# Altium schematic symbol library 8FX1-254MM.SchLib: 1 symbol
Pins are listed as number, name and electrical type; pins without a type are passive.

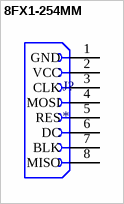
[diagram p0: symbol 8FX1-254MM]

## 8FX1-254MM
designator J?
Headers & Wire Housings 2.54MM 0.1 8-PIN FEMALE HEADER; MP: 8Fx1-254mm; MF: Gravitech; SnapEDA_Link: https://www.snapeda.com/parts/8Fx1-254mm/Gravitech/view-part/?ref=snap; Price: None; Purchase-URL: https://pricing.snapeda.com/search/part/8Fx1-254mm/?ref=eda; Package: None; Availability: In Stock; Check_prices: https://www.snapeda.com/parts/8Fx1-254mm/Gravitech/view-part/?ref=eda; Value: *
footprint GRAVITECH_8FX1-254MM
pins: 1 GND, 2 VCC, 3 CLK, 4 MOSI, 5 RES, 6 DC, 7 BLK, 8 MISO